# EAGLE library part HSDL-3612-008/-038 (library agilent-infrared)
Agilent HSDL-3612-008/038 infrared device.
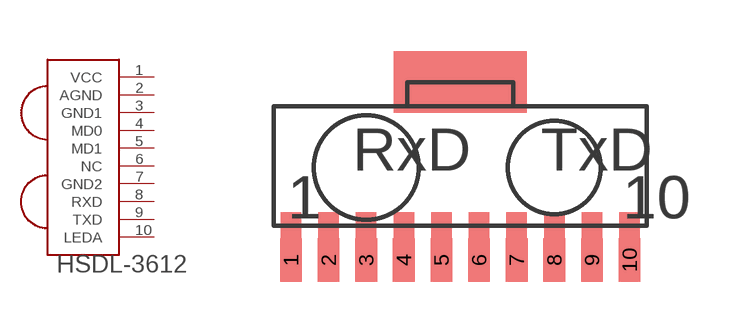
[diagram p0: symbol with the pads of HSDL-3612-008/-038; footprint HSDL-3612-008/-038]

Designator prefix -

## HSDL-3612-008/-038  [HSDL-3612-008/-038]
1  VCC
2  AGND
3  GND1
4  MD0
5  MD1
6  NC
7  GND2
8  RXD
9  TXD
10  LEDA

## Footprint HSDL-3612-008/-038 (pad centres in mm)
The package only for Agilent HSDL-3612-008/-038 infrared devices!!!
smd 0.635 x 1.27: 1 -4.9,-1; 2 -3.8,-1; 3 -2.7,-1; 4 -1.6,-1; 5 -0.5,-1; 6 0.6,-1; 7 1.7,-1; 8 2.8,-1; 9 3.9,-1; 10 5,-1